# Altium footprint library Packaging.PcbLib: 17 footprints (part 1 of 2)
Each footprint in its own frame and in the unit in brackets; x right, y up, seen from the top. Pads: shape width x height; smd on the part's side, far side on the other; paste and mask are expansions set on the pad; w line width, h text height; cw(c..) or ccw(c..) is an arc to the next point about the centre after c.
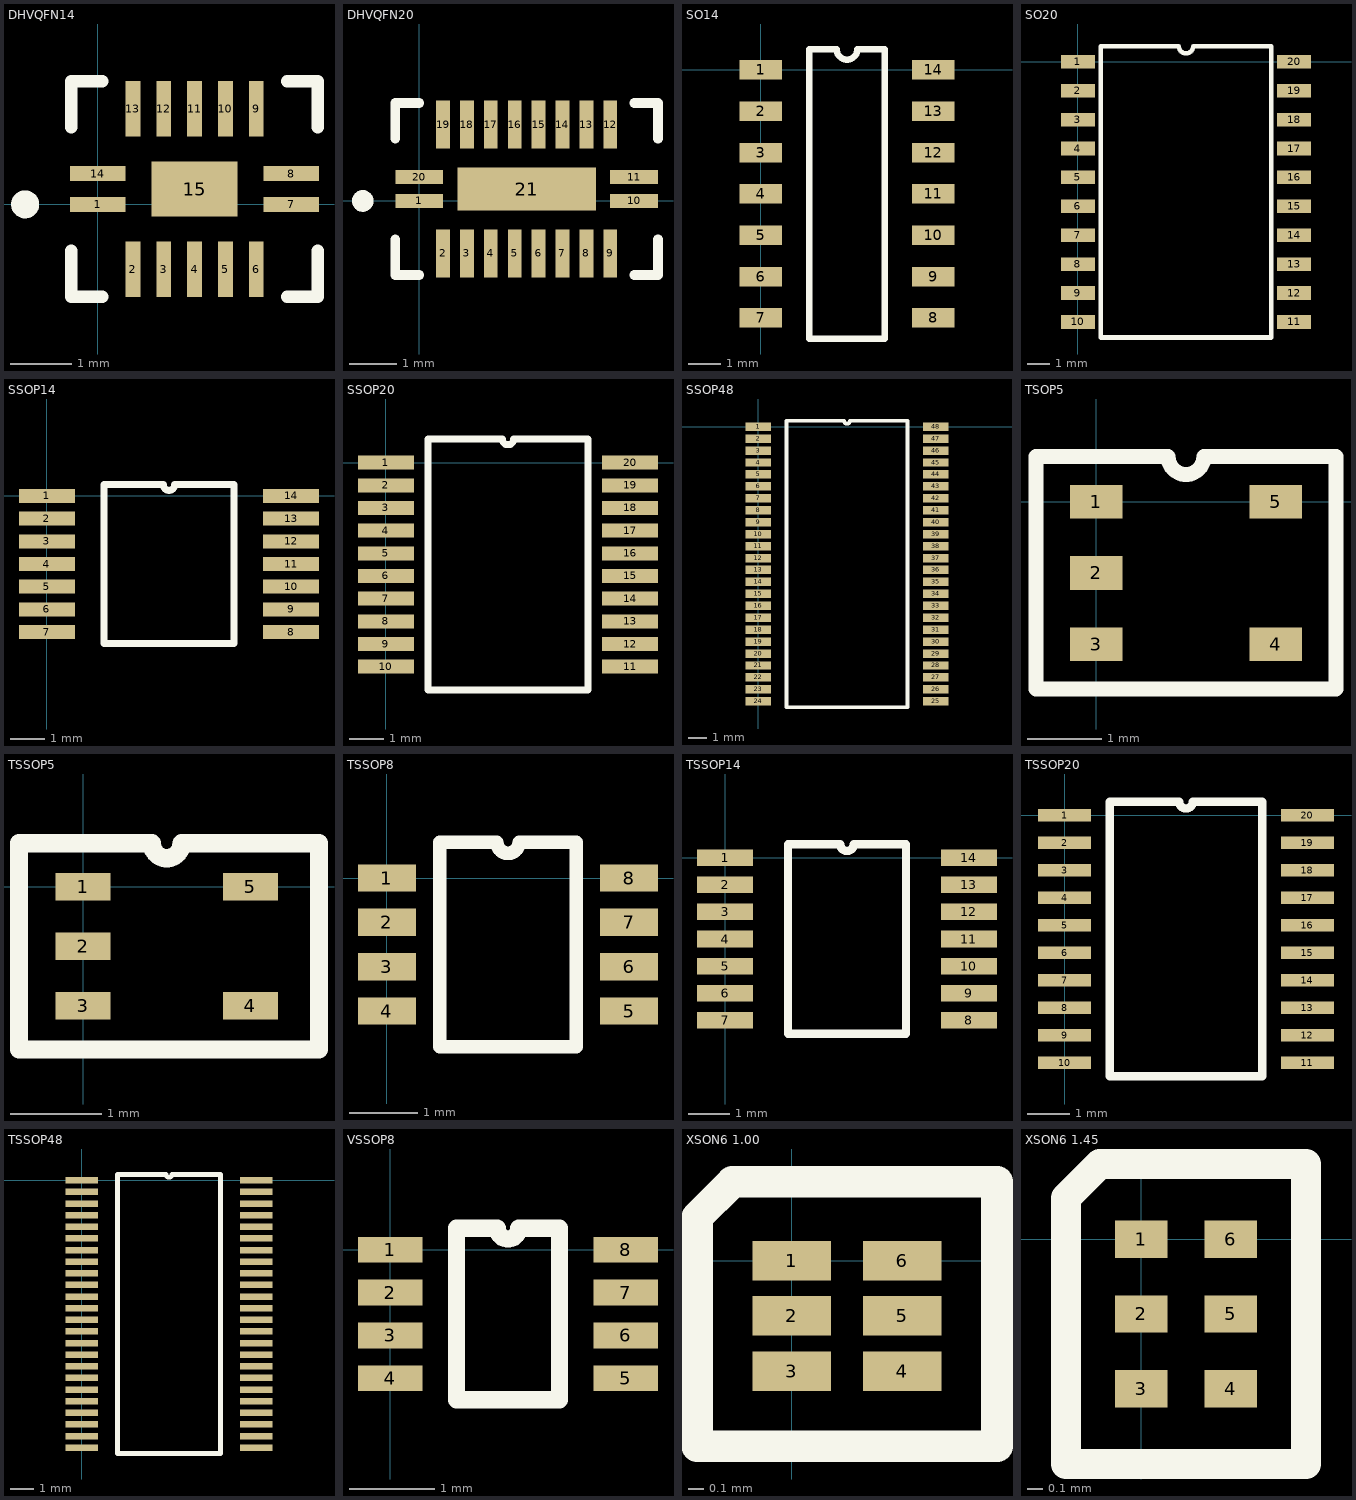
[diagram p0: the footprints below, top view; thin cyan lines are the x and y axes]

## DHVQFN14 [mm] "SOT762-1"
pads (15):
  rect 0.9x0.24 smd: 1(0,0) 7(3.14,0) 8(3.14,0.5) 14(0,0.5)
  rect 0.24x0.9 smd: 2(0.57,-1.05) 3(1.07,-1.05) 4(1.57,-1.05) 5(2.07,-1.05) 6(2.57,-1.05) 9(2.57,1.55) 10(2.07,1.55) 11(1.57,1.55) 12(1.07,1.55) 13(0.57,1.55)
  rect 1.4x0.9 smd: 15(1.57,0.25)
Top Overlay:
  circle w0.254: c-1.18,0 r0.1
  lines w0.2: -0.43,-0.75 -0.43,-1.5 0.07,-1.5 ; -0.43,1.25 -0.43,2 0.07,2 ; 3.07,-1.5 3.57,-1.5 3.57,-0.75 ; 3.07,2 3.57,2 3.57,1.25
3D body: height 1, standoff 0, extent 0.07,-1 3.07,1.5

## DHVQFN20 [mm] "SOT764-1"
pads (21):
  rect 1x0.29 smd: 1(0,0) 10(4.5,0) 11(4.5,0.5) 20(0,0.5)
  rect 0.29x1 smd: 2(0.5,-1.1) 3(1,-1.1) 4(1.5,-1.1) 5(2,-1.1) 6(2.5,-1.1) 7(3,-1.1) 8(3.5,-1.1) 9(4,-1.1) 12(4,1.6) 13(3.5,1.6) 14(3,1.6) 15(2.5,1.6) 16(2,1.6) 17(1.5,1.6) 18(1,1.6) 19(0.5,1.6)
  rect 2.9x0.9 smd: 21(2.25,0.25)
Top Overlay:
  circle w0.254: c-1.18,0 r0.1
  lines w0.2: -0.5,-0.8 -0.5,-1.55 0,-1.55 ; -0.5,1.3 -0.5,2.05 0,2.05 ; 4.5,-1.55 5,-1.55 5,-0.8 ; 4.5,2.05 5,2.05 5,1.3
3D body: height 1, standoff 0, extent 0,-1 4.5,1.5

## SO14 [mm] "SOT108-1"
pads (14):
  rect 1.3x0.6 smd: 1(0,0) 2(0,-1.27) 3(0,-2.54) 4(0,-3.81) 5(0,-5.08) 6(0,-6.35) 7(0,-7.62) 8(5.3,-7.62) 9(5.3,-6.35) 10(5.3,-5.08) 11(5.3,-3.81) 12(5.3,-2.54) 13(5.3,-1.27) 14(5.3,0)
Top Overlay:
  lines w0.2: 1.485,-8.255 1.485,0.635 2.332,0.635 ccw(c2.65,0.635) 2.967,0.635 3.815,0.635 3.815,-8.255 1.485,-8.255
3D body: height 1.1, standoff 0, extent 4.584,-0.2 5.584,0.2
3D body: height 1.1, standoff 0, extent 4.584,-1.47 5.584,-1.07
3D body: height 1.1, standoff 0, extent 4.584,-2.74 5.584,-2.34
3D body: height 1.1, standoff 0, extent 4.584,-4.01 5.584,-3.61
3D body: height 1.1, standoff 0, extent 4.584,-5.28 5.584,-4.88
3D body: height 1.1, standoff 0, extent 4.584,-6.55 5.584,-6.15
3D body: height 1.1, standoff 0, extent 4.584,-7.82 5.584,-7.42
3D body: height 1.1, standoff 0, extent -0.25,-7.82 0.75,-7.42
3D body: height 1.1, standoff 0, extent -0.25,-6.55 0.75,-6.15
3D body: height 1.1, standoff 0, extent -0.25,-5.28 0.75,-4.88
3D body: height 1.1, standoff 0, extent -0.25,-4.01 0.75,-3.61
3D body: height 1.1, standoff 0, extent -0.25,-2.74 0.75,-2.34
3D body: height 1.1, standoff 0, extent -0.25,-1.47 0.75,-1.07
3D body: height 1.1, standoff 0, extent -0.25,-0.2 0.75,0.2
3D body: height 1.75, standoff 0.1, extent 0.75,-8.256 4.55,0.636

## SO20 [mm] "SOT163-1"
pads (20):
  rect 1.5x0.6 smd: 1(0,0) 2(0,-1.27) 3(0,-2.54) 4(0,-3.81) 5(0,-5.08) 6(0,-6.35) 7(0,-7.62) 8(0,-8.89) 9(0,-10.16) 10(0,-11.43) 11(9.5,-11.43) 12(9.5,-10.16) 13(9.5,-8.89) 14(9.5,-7.62) 15(9.5,-6.35) 16(9.5,-5.08) 17(9.5,-3.81) 18(9.5,-2.54) 19(9.5,-1.27) 20(9.5,0)
Top Overlay:
  lines w0.2: 1,-12.115 8.5,-12.115 8.5,0.685 5.067,0.685 cw(c4.75,0.685) 4.432,0.685 1,0.685 1,-12.115
3D body: height 2.65, standoff 0.2, extent 1,-12.115 8.5,0.697
3D body: height 1.55, standoff 0, extent -0.4,-0.213 1,0.213
3D body: height 1.55, standoff 0, extent -0.4,-1.483 1,-1.057
3D body: height 1.55, standoff 0, extent -0.4,-2.753 1,-2.327
3D body: height 1.55, standoff 0, extent -0.4,-4.023 1,-3.597
3D body: height 1.55, standoff 0, extent -0.4,-5.293 1,-4.867
3D body: height 1.55, standoff 0, extent -0.4,-6.563 1,-6.137
3D body: height 1.55, standoff 0, extent -0.4,-7.833 1,-7.407
3D body: height 1.55, standoff 0, extent -0.4,-9.103 1,-8.677
3D body: height 1.55, standoff 0, extent -0.4,-10.373 1,-9.947
3D body: height 1.55, standoff 0, extent -0.4,-11.643 1,-11.217
3D body: height 1.55, standoff 0, extent 8.5,-11.643 9.9,-11.217
3D body: height 1.55, standoff 0, extent 8.5,-10.373 9.9,-9.947
3D body: height 1.55, standoff 0, extent 8.5,-9.103 9.9,-8.677
3D body: height 1.55, standoff 0, extent 8.5,-7.833 9.9,-7.407
3D body: height 1.55, standoff 0, extent 8.5,-6.563 9.9,-6.137
3D body: height 1.55, standoff 0, extent 8.5,-5.293 9.9,-4.867
3D body: height 1.55, standoff 0, extent 8.5,-4.023 9.9,-3.597
3D body: height 1.55, standoff 0, extent 8.5,-2.753 9.9,-2.327
3D body: height 1.55, standoff 0, extent 8.5,-1.483 9.9,-1.057
3D body: height 1.55, standoff 0, extent 8.5,-0.213 9.9,0.213

## SSOP14 [mm] "SOT337-1"
pads (14):
  rect 1.6x0.4 smd: 1(0,0) 2(0,-0.65) 3(0,-1.3) 4(0,-1.95) 5(0,-2.6) 6(0,-3.25) 7(0,-3.9) 8(7,-3.9) 9(7,-3.25) 10(7,-2.6) 11(7,-1.95) 12(7,-1.3) 13(7,-0.65) 14(7,0)
Top Overlay:
  lines w0.2: 1.635,-4.225 1.635,0.325 3.338,0.325 ccw(c3.5,0.325) 3.662,0.325 5.365,0.325 5.365,-4.225 1.635,-4.225
3D body: height 2, standoff 0.1, extent 1,-4.95 6,1.051
3D body: height 1.2, standoff 0, extent -0.25,-0.125 1,0.125
3D body: height 1.2, standoff 0, extent -0.25,-0.775 1,-0.525
3D body: height 1.2, standoff 0, extent -0.25,-1.425 1,-1.175
3D body: height 1.2, standoff 0, extent -0.25,-2.075 1,-1.825
3D body: height 1.2, standoff 0, extent -0.25,-2.725 1,-2.475
3D body: height 1.2, standoff 0, extent -0.25,-3.375 1,-3.125
3D body: height 1.2, standoff 0, extent -0.25,-4.025 1,-3.775
3D body: height 1.2, standoff 0, extent 6,-0.125 7.25,0.125
3D body: height 1.2, standoff 0, extent 6,-0.775 7.25,-0.525
3D body: height 1.2, standoff 0, extent 6,-1.425 7.25,-1.175
3D body: height 1.2, standoff 0, extent 6,-2.075 7.25,-1.825
3D body: height 1.2, standoff 0, extent 6,-2.725 7.25,-2.475
3D body: height 1.2, standoff 0, extent 6,-3.375 7.25,-3.125
3D body: height 1.2, standoff 0, extent 6,-4.025 7.25,-3.775

## SSOP20 [mm] "SOT339-1"
pads (20):
  rect 1.6x0.4 smd: 1(0,0) 2(0,-0.65) 3(0,-1.3) 4(0,-1.95) 5(0,-2.6) 6(0,-3.25) 7(0,-3.9) 8(0,-4.55) 9(0,-5.2) 10(0,-5.85) 11(7,-5.85) 12(7,-5.2) 13(7,-4.55) 14(7,-3.9) 15(7,-3.25) 16(7,-2.6) 17(7,-1.95) 18(7,-1.3) 19(7,-0.65) 20(7,0)
Top Overlay:
  lines w0.2: 1.2,-6.525 5.8,-6.525 5.8,0.675 3.662,0.675 cw(c3.5,0.675) 3.338,0.675 1.2,0.675 1.2,-6.525
3D body: height 1.2, standoff 0, extent 6.15,-0.813 7.4,-0.487
3D body: height 1.2, standoff 0, extent 6.15,-0.162 7.4,0.163
3D body: height 1.2, standoff 0, extent 6.15,-2.113 7.4,-1.788
3D body: height 1.2, standoff 0, extent 6.15,-1.463 7.4,-1.138
3D body: height 1.2, standoff 0, extent 6.15,-3.413 7.4,-3.088
3D body: height 1.2, standoff 0, extent 6.15,-2.763 7.4,-2.438
3D body: height 1.2, standoff 0, extent 6.15,-4.713 7.4,-4.388
3D body: height 1.2, standoff 0, extent 6.15,-4.063 7.4,-3.738
3D body: height 1.2, standoff 0, extent 6.15,-6.013 7.4,-5.688
3D body: height 1.2, standoff 0, extent 6.15,-5.363 7.4,-5.038
3D body: height 1.2, standoff 0, extent -0.4,-5.363 0.85,-5.038
3D body: height 1.2, standoff 0, extent -0.4,-6.013 0.85,-5.688
3D body: height 1.2, standoff 0, extent -0.4,-4.063 0.85,-3.738
3D body: height 1.2, standoff 0, extent -0.4,-4.713 0.85,-4.388
3D body: height 1.2, standoff 0, extent -0.4,-2.763 0.85,-2.438
3D body: height 1.2, standoff 0, extent -0.4,-3.413 0.85,-3.088
3D body: height 1.2, standoff 0, extent -0.4,-1.463 0.85,-1.138
3D body: height 1.2, standoff 0, extent -0.4,-2.113 0.85,-1.788
3D body: height 1.2, standoff 0, extent -0.4,-0.813 0.85,-0.488
3D body: height 1.2, standoff 0, extent -0.4,-0.163 0.85,0.162
3D body: height 2, standoff 0.1, extent 0.85,-6.525 6.15,0.675

## SSOP48 [mm] "SOT370-1"
pads (48):
  rect 1.35x0.45 smd: 1(0,0) 2(0,-0.635) 3(0,-1.27) 4(0,-1.905) 5(0,-2.54) 6(0,-3.175) 7(0,-3.81) 8(0,-4.445) 9(0,-5.08) 10(0,-5.715) 11(0,-6.35) 12(0,-6.985) 13(0,-7.62) 14(0,-8.255) 15(0,-8.89) 16(0,-9.525) 17(0,-10.16) 18(0,-10.795) 19(0,-11.43) 20(0,-12.065) 21(0,-12.7) 22(0,-13.335) 23(0,-13.97) 24(0,-14.605) 25(9.45,-14.605) 26(9.45,-13.97) 27(9.45,-13.335) 28(9.45,-12.7) 29(9.45,-12.065) 30(9.45,-11.43) 31(9.45,-10.795) 32(9.45,-10.16) 33(9.45,-9.525) 34(9.45,-8.89) 35(9.45,-8.255) 36(9.45,-7.62) 37(9.45,-6.985) 38(9.45,-6.35) 39(9.45,-5.715) 40(9.45,-5.08) 41(9.45,-4.445) 42(9.45,-3.81) 43(9.45,-3.175) 44(9.45,-2.54) 45(9.45,-1.905) 46(9.45,-1.27) 47(9.45,-0.635) 48(9.45,0)
Top Overlay:
  lines w0.2: 1.51,-14.922 1.51,0.318 4.566,0.318 ccw(c4.725,0.318) 4.884,0.317 7.94,0.318 7.94,-14.922 1.51,-14.922
3D body: height 1.6, standoff 0, extent 8.525,-14.75 9.925,-14.45
3D body: height 1.6, standoff 0, extent 8.525,-14.125 9.925,-13.825
3D body: height 1.6, standoff 0, extent 8.525,-13.475 9.925,-13.175
3D body: height 1.6, standoff 0, extent 8.525,-12.85 9.925,-12.55
3D body: height 1.6, standoff 0, extent 8.525,-12.2 9.925,-11.9
3D body: height 1.6, standoff 0, extent 8.525,-9.025 9.925,-8.725
3D body: height 1.6, standoff 0, extent 8.525,-9.675 9.925,-9.375
3D body: height 1.6, standoff 0, extent 8.525,-10.3 9.925,-10
3D body: height 1.6, standoff 0, extent 8.525,-10.95 9.925,-10.65
3D body: height 1.6, standoff 0, extent 8.525,-11.575 9.925,-11.275
3D body: height 1.6, standoff 0, extent 8.525,-5.85 9.925,-5.55
3D body: height 1.6, standoff 0, extent 8.525,-6.5 9.925,-6.2
3D body: height 1.6, standoff 0, extent 8.525,-7.125 9.925,-6.825
3D body: height 1.6, standoff 0, extent 8.525,-7.775 9.925,-7.475
3D body: height 1.6, standoff 0, extent 8.525,-8.4 9.925,-8.1
3D body: height 1.6, standoff 0, extent 8.525,-2.675 9.925,-2.375
3D body: height 1.6, standoff 0, extent 8.525,-3.325 9.925,-3.025
3D body: height 1.6, standoff 0, extent 8.525,-3.95 9.925,-3.65
3D body: height 1.6, standoff 0, extent 8.525,-4.6 9.925,-4.3
3D body: height 1.6, standoff 0, extent 8.525,-5.225 9.925,-4.925
3D body: height 1.6, standoff 0, extent 8.525,-0.15 9.925,0.15
3D body: height 1.6, standoff 0, extent 8.525,-0.775 9.925,-0.475
3D body: height 1.6, standoff 0, extent 8.525,-1.425 9.925,-1.125
3D body: height 1.6, standoff 0, extent 8.525,-2.05 9.925,-1.75
3D body: height 1.6, standoff 0, extent -0.475,-12.85 0.925,-12.55
3D body: height 1.6, standoff 0, extent -0.475,-13.475 0.925,-13.175
3D body: height 1.6, standoff 0, extent -0.475,-14.125 0.925,-13.825
3D body: height 1.6, standoff 0, extent -0.475,-14.75 0.925,-14.45
3D body: height 1.6, standoff 0, extent -0.475,-9.675 0.925,-9.375
3D body: height 1.6, standoff 0, extent -0.475,-10.3 0.925,-10
3D body: height 1.6, standoff 0, extent -0.475,-10.95 0.925,-10.65
3D body: height 1.6, standoff 0, extent -0.475,-11.575 0.925,-11.275
3D body: height 1.6, standoff 0, extent -0.475,-12.225 0.925,-11.925
3D body: height 1.6, standoff 0, extent -0.475,-6.5 0.925,-6.2
3D body: height 1.6, standoff 0, extent -0.475,-7.125 0.925,-6.825
3D body: height 1.6, standoff 0, extent -0.475,-7.775 0.925,-7.475
3D body: height 1.6, standoff 0, extent -0.475,-8.4 0.925,-8.1
3D body: height 1.6, standoff 0, extent -0.475,-9.05 0.925,-8.75
3D body: height 1.6, standoff 0, extent -0.475,-3.325 0.925,-3.025
3D body: height 1.6, standoff 0, extent -0.475,-3.95 0.925,-3.65
3D body: height 1.6, standoff 0, extent -0.475,-4.6 0.925,-4.3
3D body: height 1.6, standoff 0, extent -0.475,-5.225 0.925,-4.925
3D body: height 1.6, standoff 0, extent -0.475,-5.875 0.925,-5.575
3D body: height 1.6, standoff 0, extent -0.475,-2.7 0.925,-2.4
3D body: height 1.6, standoff 0, extent -0.475,-2.05 0.925,-1.75
3D body: height 1.6, standoff 0, extent -0.475,-1.425 0.925,-1.125
3D body: height 1.6, standoff 0, extent -0.475,-0.775 0.925,-0.475
3D body: height 1.6, standoff 0, extent -0.475,-0.15 0.925,0.15
3D body: height 2.8, standoff 0.4, extent 0.925,-15.303 8.525,0.699

## TSOP5 [mm] "SOT753"
pads (5):
  rect 0.7x0.45 smd: 1(0,0) 2(0,-0.95) 3(0,-1.9) 4(2.4,-1.9) 5(2.4,0)
Top Overlay:
  lines w0.2: -0.8,-2.5 3.2,-2.5 3.2,0.6 1.438,0.6 cw(c1.2,0.6) 0.962,0.6 -0.8,0.6 -0.8,-2.5
3D body: height 0.77, standoff 0, extent 2.05,-0.2 2.65,0.2
3D body: height 0.77, standoff 0, extent 2.05,-2.1 2.65,-1.7
3D body: height 0.77, standoff 0, extent -0.25,-2.1 0.35,-1.7
3D body: height 0.77, standoff 0, extent -0.25,-1.15 0.35,-0.75
3D body: height 1.1, standoff 0.1, extent 0.35,-2.5 2.05,0.6
3D body: height 0.77, standoff 0, extent -0.25,-0.2 0.35,0.2

## TSSOP5 [mm] "SOT353-1"
pads (5):
  rect 0.6x0.3 smd: 1(0,0) 2(0,-0.65) 3(0,-1.3) 4(1.825,-1.3) 5(1.825,0)
Top Overlay:
  lines w0.2: 0.725,0.475 -0.7,0.475 -0.7,-1.775 2.575,-1.775 2.575,0.475 1.075,0.475 cw(c0.913,0.475) 0.75,0.475
3D body: height 0.7, standoff 0, extent 1.587,-0.15 2.012,0.15
3D body: height 0.7, standoff 0, extent 1.587,-1.45 2.012,-1.15
3D body: height 0.7, standoff 0, extent -0.187,-1.45 0.238,-1.15
3D body: height 0.7, standoff 0, extent -0.187,-0.8 0.238,-0.5
3D body: height 0.7, standoff 0, extent -0.187,-0.15 0.238,0.15
3D body: height 1.1, standoff 0.1, extent 0.237,-1.775 1.587,0.501

## TSSOP8 [mm] "SOT505-2"
pads (8):
  rect 0.85x0.4 smd: 1(0,0) 2(0,-0.65) 3(0,-1.3) 4(0,-1.95) 5(3.55,-1.95) 6(3.55,-1.3) 7(3.55,-0.65) 8(3.55,0)
Top Overlay:
  lines w0.2: 0.775,-2.475 0.775,0.525 1.613,0.525 ccw(c1.775,0.525) 1.937,0.525 2.775,0.525 2.775,-2.475 0.775,-2.475
3D body: height 1.1, standoff 0.1, extent 0.275,-2.475 3.275,0.526
3D body: height 0.5, standoff 0, extent -0.225,-0.15 0.275,0.15
3D body: height 0.5, standoff 0, extent -0.225,-0.8 0.275,-0.5
3D body: height 0.5, standoff 0, extent -0.225,-1.45 0.275,-1.15
3D body: height 0.5, standoff 0, extent -0.225,-2.1 0.275,-1.8
3D body: height 0.5, standoff 0, extent 3.275,-2.1 3.775,-1.8
3D body: height 0.5, standoff 0, extent 3.275,-1.45 3.775,-1.15
3D body: height 0.5, standoff 0, extent 3.275,-0.8 3.775,-0.5
3D body: height 0.5, standoff 0, extent 3.275,-0.15 3.775,0.15

## TSSOP14 [mm] "SOT402-1"
pads (14):
  rect 1.35x0.4 smd: 1(0,0) 2(0,-0.65) 3(0,-1.3) 4(0,-1.95) 5(0,-2.6) 6(0,-3.25) 7(0,-3.9) 8(5.85,-3.9) 9(5.85,-3.25) 10(5.85,-2.6) 11(5.85,-1.95) 12(5.85,-1.3) 13(5.85,-0.65) 14(5.85,0)
Top Overlay:
  lines w0.2: 1.51,-4.225 4.34,-4.225 4.34,0.325 3.087,0.325 cw(c2.925,0.325) 2.763,0.325 1.51,0.325 1.51,-4.225
3D body: height 0.25, standoff 0, extent 5.175,-0.775 6.175,-0.525
3D body: height 0.25, standoff 0, extent 5.175,-0.125 6.175,0.125
3D body: height 0.25, standoff 0, extent 5.175,-1.425 6.175,-1.175
3D body: height 0.25, standoff 0, extent 5.175,-2.075 6.175,-1.825
3D body: height 0.25, standoff 0, extent 5.175,-2.725 6.175,-2.475
3D body: height 0.25, standoff 0, extent 5.175,-3.375 6.175,-3.125
3D body: height 0.25, standoff 0, extent 5.175,-4.025 6.175,-3.775
3D body: height 0.25, standoff 0, extent -0.325,-4.025 0.675,-3.775
3D body: height 0.25, standoff 0, extent -0.325,-3.375 0.675,-3.125
3D body: height 0.25, standoff 0, extent -0.325,-2.725 0.675,-2.475
3D body: height 0.25, standoff 0, extent -0.325,-2.075 0.675,-1.825
3D body: height 0.25, standoff 0, extent -0.325,-1.425 0.675,-1.175
3D body: height 0.25, standoff 0, extent -0.325,-0.125 0.675,0.125
3D body: height 0.25, standoff 0, extent -0.325,-0.775 0.675,-0.525
3D body: height 1.1, standoff 0.15, extent 0.675,-4.45 5.175,0.551

## TSSOP20 [mm] "SOT360-1"
pads (20):
  rect 1.25x0.3 smd: 1(0,0) 2(0,-0.65) 3(0,-1.3) 4(0,-1.95) 5(0,-2.6) 6(0,-3.25) 7(0,-3.9) 8(0,-4.55) 9(0,-5.2) 10(0,-5.85) 11(5.75,-5.85) 12(5.75,-5.2) 13(5.75,-4.55) 14(5.75,-3.9) 15(5.75,-3.25) 16(5.75,-2.6) 17(5.75,-1.95) 18(5.75,-1.3) 19(5.75,-0.65) 20(5.75,0)
Top Overlay:
  lines w0.2: 1.075,-6.175 4.675,-6.175 4.675,0.325 3.037,0.325 cw(c2.875,0.325) 2.713,0.325 1.075,0.325 1.075,-6.175
3D body: height 0.75, standoff 0, extent 5.075,-5.975 6.075,-5.725
3D body: height 0.75, standoff 0, extent 5.075,-5.325 6.075,-5.075
3D body: height 0.75, standoff 0, extent 5.075,-4.025 6.075,-3.775
3D body: height 0.75, standoff 0, extent 5.075,-4.675 6.075,-4.425
3D body: height 0.75, standoff 0, extent 5.075,-2.075 6.075,-1.825
3D body: height 0.75, standoff 0, extent 5.075,-1.425 6.075,-1.175
3D body: height 0.75, standoff 0, extent 5.075,-2.725 6.075,-2.475
3D body: height 0.75, standoff 0, extent 5.075,-3.375 6.075,-3.125
3D body: height 0.75, standoff 0, extent 5.075,-0.125 6.075,0.125
3D body: height 0.75, standoff 0, extent 5.075,-0.775 6.075,-0.525
3D body: height 0.75, standoff 0, extent -0.325,-5.325 0.675,-5.075
3D body: height 0.75, standoff 0, extent -0.325,-5.975 0.675,-5.725
3D body: height 0.75, standoff 0, extent -0.325,-2.725 0.675,-2.475
3D body: height 0.75, standoff 0, extent -0.325,-3.375 0.675,-3.125
3D body: height 0.75, standoff 0, extent -0.325,-4.675 0.675,-4.425
3D body: height 0.75, standoff 0, extent -0.325,-4.025 0.675,-3.775
3D body: height 0.75, standoff 0, extent -0.325,-1.425 0.675,-1.175
3D body: height 0.75, standoff 0, extent -0.325,-2.075 0.675,-1.825
3D body: height 0.75, standoff 0, extent -0.325,-0.775 0.675,-0.525
3D body: height 0.75, standoff 0, extent -0.325,-0.125 0.675,0.125
3D body: height 1.1, standoff 0.15, extent 0.675,-6.175 5.075,0.326

## TSSOP48 [mm] "SOT362-1"
pads (48):
  rect 1.4x0.28 smd: 1(0,0) 2(0,-0.5) 3(0,-1) 4(0,-1.5) 5(0,-2) 6(0,-2.5) 7(0,-3) 8(0,-3.5) 9(0,-4) 10(0,-4.5) 11(0,-5) 12(0,-5.5) 13(0,-6) 14(0,-6.5) 15(0,-7) 16(0,-7.5) 17(0,-8) 18(0,-8.5) 19(0,-9) 20(0,-9.5) 21(0,-10) 22(0,-10.5) 23(0,-11) 24(0,-11.5) 25(7.5,-11.5) 26(7.5,-11) 27(7.5,-10.5) 28(7.5,-10) 29(7.5,-9.5) 30(7.5,-9) 31(7.5,-8.5) 32(7.5,-8) 33(7.5,-7.5) 34(7.5,-7) 35(7.5,-6.5) 36(7.5,-6) 37(7.5,-5.5) 38(7.5,-5) 39(7.5,-4.5) 40(7.5,-4) 41(7.5,-3.5) 42(7.5,-3) 43(7.5,-2.5) 44(7.5,-2) 45(7.5,-1.5) 46(7.5,-1) 47(7.5,-0.5) 48(7.5,0)
Top Overlay:
  lines w0.2: 1.535,-11.75 1.535,0.25 3.625,0.25 ccw(c3.75,0.25) 3.875,0.25 5.965,0.25 5.965,-11.75 1.535,-11.75
3D body: height 0.77, standoff 0, extent 6.8,-1.612 7.8,-1.387
3D body: height 0.77, standoff 0, extent 6.8,-1.112 7.8,-0.887
3D body: height 0.77, standoff 0, extent 6.8,-0.112 7.8,0.113
3D body: height 0.77, standoff 0, extent 6.8,-0.612 7.8,-0.387
3D body: height 0.77, standoff 0, extent 6.8,-3.612 7.8,-3.387
3D body: height 0.77, standoff 0, extent 6.8,-3.112 7.8,-2.887
3D body: height 0.77, standoff 0, extent 6.8,-2.112 7.8,-1.887
3D body: height 0.77, standoff 0, extent 6.8,-2.612 7.8,-2.387
3D body: height 0.77, standoff 0, extent 6.8,-5.612 7.8,-5.387
3D body: height 0.77, standoff 0, extent 6.8,-5.112 7.8,-4.887
3D body: height 0.77, standoff 0, extent 6.8,-4.112 7.8,-3.887
3D body: height 0.77, standoff 0, extent 6.8,-4.612 7.8,-4.387
3D body: height 0.77, standoff 0, extent 6.8,-7.612 7.8,-7.387
3D body: height 0.77, standoff 0, extent 6.8,-7.112 7.8,-6.887
3D body: height 0.77, standoff 0, extent 6.8,-6.112 7.8,-5.887
3D body: height 0.77, standoff 0, extent 6.8,-6.612 7.8,-6.387
3D body: height 0.77, standoff 0, extent 6.8,-9.612 7.8,-9.387
3D body: height 0.77, standoff 0, extent 6.8,-9.112 7.8,-8.887
3D body: height 0.77, standoff 0, extent 6.8,-8.112 7.8,-7.887
3D body: height 0.77, standoff 0, extent 6.8,-8.612 7.8,-8.387
3D body: height 0.77, standoff 0, extent 6.8,-11.612 7.8,-11.387
3D body: height 0.77, standoff 0, extent 6.8,-11.112 7.8,-10.887
3D body: height 0.77, standoff 0, extent 6.8,-10.112 7.8,-9.887
3D body: height 0.77, standoff 0, extent 6.8,-10.612 7.8,-10.387
3D body: height 0.77, standoff 0, extent -0.3,-10.112 0.7,-9.887
3D body: height 0.77, standoff 0, extent -0.3,-10.612 0.7,-10.387
3D body: height 0.77, standoff 0, extent -0.3,-11.612 0.7,-11.387
3D body: height 0.77, standoff 0, extent -0.3,-11.112 0.7,-10.887
3D body: height 0.77, standoff 0, extent -0.3,-8.112 0.7,-7.887
3D body: height 0.77, standoff 0, extent -0.3,-8.612 0.7,-8.387
3D body: height 0.77, standoff 0, extent -0.3,-9.612 0.7,-9.387
3D body: height 0.77, standoff 0, extent -0.3,-9.112 0.7,-8.887
3D body: height 0.77, standoff 0, extent -0.3,-6.112 0.7,-5.887
3D body: height 0.77, standoff 0, extent -0.3,-6.612 0.7,-6.387
3D body: height 0.77, standoff 0, extent -0.3,-7.612 0.7,-7.387
3D body: height 0.77, standoff 0, extent -0.3,-7.112 0.7,-6.887
3D body: height 0.77, standoff 0, extent -0.3,-4.112 0.7,-3.887
3D body: height 0.77, standoff 0, extent -0.3,-4.612 0.7,-4.387
3D body: height 0.77, standoff 0, extent -0.3,-5.612 0.7,-5.387
3D body: height 0.77, standoff 0, extent -0.3,-5.112 0.7,-4.887
3D body: height 0.77, standoff 0, extent -0.3,-2.112 0.7,-1.887
3D body: height 0.77, standoff 0, extent -0.3,-2.612 0.7,-2.387
3D body: height 0.77, standoff 0, extent -0.3,-3.612 0.7,-3.387
3D body: height 0.77, standoff 0, extent -0.3,-3.112 0.7,-2.887
3D body: height 0.77, standoff 0, extent -0.3,-1.112 0.7,-0.887
3D body: height 0.77, standoff 0, extent -0.3,-1.612 0.7,-1.387
3D body: height 0.77, standoff 0, extent -0.3,-0.612 0.7,-0.387
3D body: height 0.77, standoff 0, extent -0.3,-0.112 0.7,0.113
3D body: height 1.2, standoff 0.1, extent 0.7,-12 6.8,0.501

## VSSOP8 [mm] "SOT765-1"
pads (8):
  rect 0.75x0.3 smd: 1(0,0) 2(0,-0.5) 3(0,-1) 4(0,-1.5) 5(2.75,-1.5) 6(2.75,-1) 7(2.75,-0.5) 8(2.75,0)
Top Overlay:
  lines w0.2: 0.775,-1.75 1.975,-1.75 1.975,0.25 1.5,0.25 cw(c1.375,0.25) 1.25,0.25 0.775,0.25 0.775,-1.75
3D body: height 1, standoff 0.1, extent 0.225,-1.75 2.525,0.25
3D body: height 0.8, standoff 0, extent -0.175,-0.125 0.225,0.125
3D body: height 0.8, standoff 0, extent -0.175,-0.625 0.225,-0.375
3D body: height 0.8, standoff 0, extent -0.175,-1.125 0.225,-0.875
3D body: height 0.8, standoff 0, extent -0.175,-1.625 0.225,-1.375
3D body: height 0.8, standoff 0, extent 2.525,-1.625 2.925,-1.375
3D body: height 0.8, standoff 0, extent 2.525,-1.125 2.925,-0.875
3D body: height 0.8, standoff 0, extent 2.525,-0.625 2.925,-0.375
3D body: height 0.8, standoff 0, extent 2.525,-0.125 2.925,0.125

## XSON6 1.00 [mm] "SOT891"
pads (6):
  rect 0.5x0.25 smd mask+0.1: 1(0,0) 2(0,-0.35) 3(0,-0.7) 4(0.7,-0.7) 5(0.7,-0.35) 6(0.7,0)
Top Overlay:
  lines w0.2: -0.6,-1.175 1.3,-1.175 1.3,0.5 -0.375,0.5 -0.6,0.275 -0.6,-1.175
3D body: height 0.5, standoff 0.1, extent -0.125,-0.85 0.85,0.15

## XSON6 1.45 [mm] "SOT886"
pads (6):
  rect 0.35x0.25 smd: 1(0,0) 2(0,-0.5) 3(0,-1) 4(0.6,-1) 5(0.6,-0.5) 6(0.6,0)
Top Overlay:
  lines w0.2: -0.5,-1.5 -0.5,0.275 -0.275,0.5 1.1,0.5 1.1,-1.5 -0.5,-1.5
3D body: height 0.5, standoff 0.1, extent -0.2,-1.25 0.8,0.25